# EAGLE library part FLOPPY_CONN (library floppy_connector)
Floppy interface old style
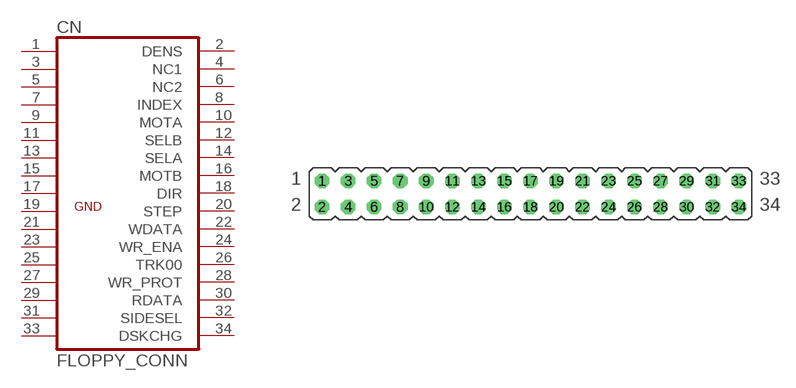
[diagram p0: symbol with the pads of FL_CONN; footprint FL_CONN]

Designator prefix CN

## FLOPPY_CONN  [FL_CONN]
1  1  pas
2  DENS  pas
3  3  pas
4  NC1  nc
5  5  pas
6  NC2  nc
7  7  pas
8  INDEX  pas
9  9  pas
10  MOTA  pas
11  11  pas
12  SELB  pas
13  13  pas
14  SELA  pas
15  15  pas
16  MOTB  pas
17  17  pas
18  DIR  pas
19  19  pas
20  STEP  pas
21  21  pas
22  WDATA  pas
23  23  pas
24  WR_ENA  pas
25  25  pas
26  TRK00  pas
27  27  pas
28  WR_PROT  pas
29  29  pas
30  RDATA  pas
31  31  pas
32  SIDESEL  pas
33  33  pas
34  DSKCHG  pas

## Footprint FL_CONN (pad centres in mm)
JUMPER
drill 0.914 octagon: 1 -7.62,1.27; 2 -7.62,-1.27; 3 -5.08,1.27; 4 -5.08,-1.27; 5 -2.54,1.27; 6 -2.54,-1.27; 7 0,1.27; 8 0,-1.27; 9 2.54,1.27; 10 2.54,-1.27; 11 5.08,1.27; 12 5.08,-1.27; 13 7.62,1.27; 14 7.62,-1.27; 15 10.16,1.27; 16 10.16,-1.27; 17 12.7,1.27; 18 12.7,-1.27; 19 15.24,1.27; 20 15.24,-1.27; 21 17.78,1.27; 22 17.78,-1.27; 23 20.32,1.27; 24 20.32,-1.27; 25 22.86,1.27; 26 22.86,-1.27; 27 25.4,1.27; 28 25.4,-1.27; 29 27.94,1.27; 30 27.94,-1.27; 31 30.48,1.27; 32 30.48,-1.27; 33 33.02,1.27; 34 33.02,-1.27